# Altium footprint library 按键.PcbLib: 69 footprints (part 1 of 5)
Each footprint in its own frame and in the unit in brackets; x right, y up, seen from the top. Pads: shape width x height; smd on the part's side, far side on the other; paste and mask are expansions set on the pad; w line width, h text height; cw(c..) or ccw(c..) is an arc to the next point about the centre after c.
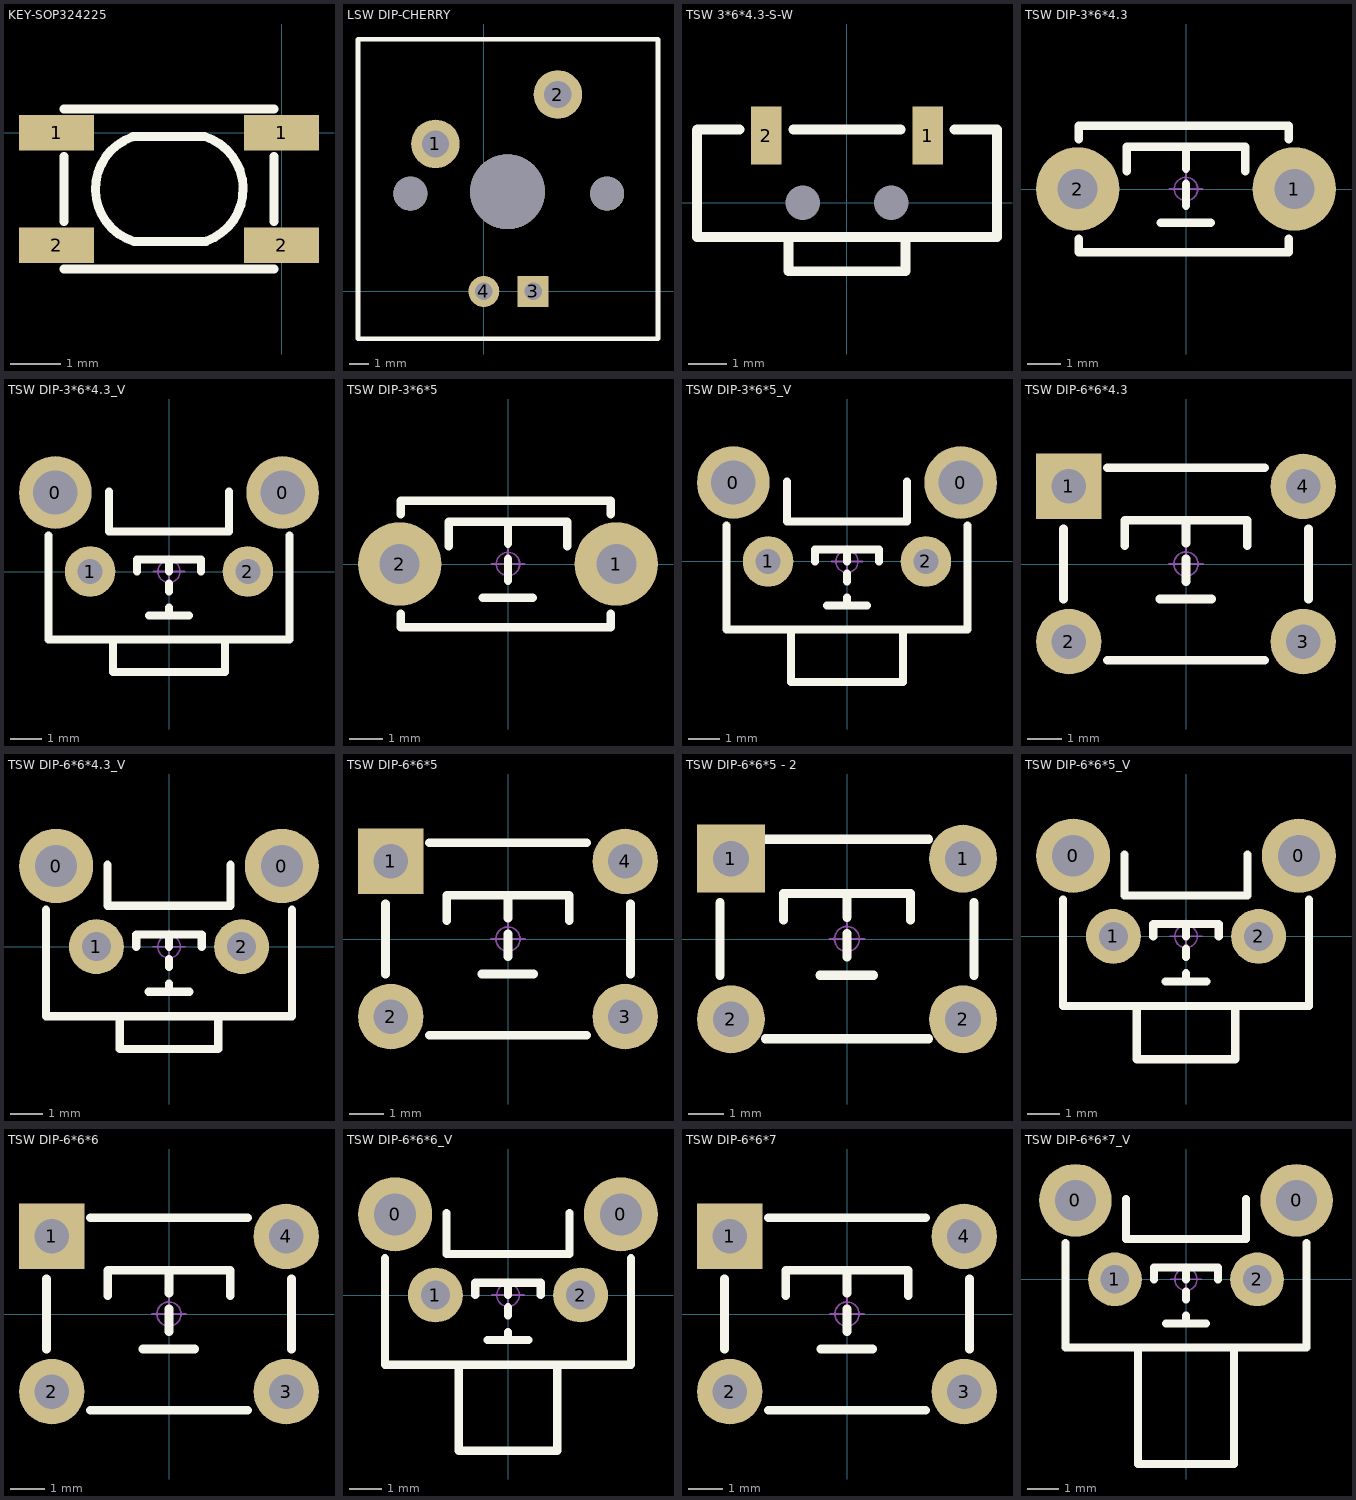
[diagram p0: the footprints below, top view; thin cyan lines are the x and y axes]

## KEY-SOP324225 [mm]
pads (4):
  rect 1.5x0.7 smd: 1(-4.5,0) 1(0,0) 2(-4.5,-2.25) 2(0,-2.25)
Top Overlay:
  lines w0.178: -4.35,-2.725 -0.15,-2.725 ; -4.35,-1.775 -4.35,-0.475 ; -4.35,0.475 -0.15,0.475 ; -2.988,-0.088 ccw(c-2.622,-1.125) -2.95,-2.175 -1.513,-2.175 ; -2.975,-0.075 -1.538,-0.075 cw(c-1.866,-1.125) -1.5,-2.162 ; -0.15,-1.775 -0.15,-0.475
3D body "User Library-KEY_SOT_P2.STEP": height 2.49, standoff 0.1, extent -6.438,-2.927 1.702,0.673

## LSW DIP-CHERRY [mm]
pads (7):
  round 2.5 hole 1.4: 1(-2.489,7.595) 2(3.81,10.135)
  rect 1.6x1.6 hole 0.9: 3(2.54,0)
  round 1.6 hole 0.9: 4(0,0)
  round 1.75 hole 1.75: ""(-3.785,5.029) ""(6.35,5.029)
  round 3.85 hole 3.85: ""(1.219,5.131)
Top Overlay:
  lines w0.254: -6.477,-2.438 -6.477,12.979 8.966,12.979 8.966,-2.438 -6.477,-2.438
3D body "凯?": height 3.45, standoff -15.75, extent -6.581,-2.669 9.019,12.931

## TSW 3*6*4.3-S-W [mm] "侧立贴片3*6*4.3"
pads (4):
  round 0 hole 0.9: 0(-1.15,0) 0(1.15,0)
  rect 0.8x1.5 smd: 1(2.1,1.75) 2(-2.1,1.75)
Top Overlay:
  lines w0.254: -2.794,1.905 -3.895,1.905 -3.9,1.9 -3.9,-0.889 3.9,-0.889 3.9,1.91 3.895,1.905 2.794,1.905 ; -1.524,-0.889 -1.524,-1.778 1.524,-1.778 1.524,-0.889 ; -1.397,1.905 1.397,1.905
3D body "TSW 3x6x4.3-S-W.STEP": height 3.51, standoff -0.74, extent -3.9,-1.79 3.9,1.91

## TSW DIP-3*6*4.3 [mm] "3*6*4.3mm"
pads (2):
  round 2.5 hole 1.2: 1(3.25,0) 2(-3.25,0)
Top Overlay:
  lines w0.254: -3.212,-1.499 -3.212,-1.9 3.088,-1.9 3.088,-1.499 ; -3.212,1.499 -3.212,1.9 3.088,1.9 3.088,1.499 ; -1.778,0.533 -1.778,1.27 1.778,1.27 1.778,0.533 ; -0.762,-1.016 0.737,-1.016 ; 0,-0.508 0,0.152 ; 0,0.61 0,1.27
Mechanical 15:
  circle w0.05: c0,0 r0.35
  lines w0.05: -0.5,0 0.5,0 ; 0,-0.5 0,0.5
3D body "TSW DIP-3x6x4.3.STEP": height 4.31, standoff -3.49, extent -3.914,-1.75 3.914,1.75

## TSW DIP-3*6*4.3_V [mm] "侧按轻触开关 3*6*4.3mm"
pads (4):
  round 2.3 hole 1.4: 0(-3.6,2.5) 0(3.6,2.5)
  round 1.6 hole 0.8: 1(-2.5,0) 2(2.5,0)
Top Overlay:
  lines w0.254: -3.81,1.143 -3.81,-2.159 3.81,-2.159 3.81,1.143 ; -1.905,2.54 -1.905,1.27 1.905,1.27 1.905,2.54 ; -1.778,-2.159 -1.778,-3.175 1.778,-3.175 1.778,-2.159 ; -1.016,0 -1.016,0.381 1.016,0.381 1.016,0 ; -0.635,-1.397 0.635,-1.397 ; 0,-1.397 0,-1.143 ; 0,-0.635 0,-0.381 ; 0,0 0,0.381
Mechanical 15:
  circle w0.05: c0,0 r0.35
  lines w0.05: -0.5,0 0.5,0 ; 0,-0.5 0,0.5
3D body "TSW DIP-3x6x4.3_V.STEP": height 4.45, standoff -2.8, extent -3.996,-3.05 3.996,3.5

## TSW DIP-3*6*5 [mm] "3*6*5mm"
pads (2):
  round 2.5 hole 1.2: 1(3.25,0) 2(-3.25,0)
Top Overlay:
  lines w0.254: -3.212,-1.499 -3.212,-1.9 3.088,-1.9 3.088,-1.499 ; -3.212,1.499 -3.212,1.9 3.088,1.9 3.088,1.499 ; -1.778,0.533 -1.778,1.27 1.778,1.27 1.778,0.533 ; -0.762,-1.016 0.737,-1.016 ; 0,-0.508 0,0.152 ; 0,0.61 0,1.27
Mechanical 15:
  circle w0.05: c0,0 r0.35
  lines w0.05: -0.5,0 0.5,0 ; 0,-0.5 0,0.5
3D body "TSW DIP-3x6x5.STEP": height 5.01, standoff -3.49, extent -3.914,-1.75 3.914,1.75

## TSW DIP-3*6*5_V [mm] "侧按轻触开关 3*6*5mm"
pads (4):
  round 2.3 hole 1.4: 0(-3.6,2.5) 0(3.6,2.5)
  round 1.6 hole 0.8: 1(-2.5,0) 2(2.5,0)
Top Overlay:
  lines w0.254: -3.81,1.143 -3.81,-2.159 3.81,-2.159 3.81,1.143 ; -1.905,2.54 -1.905,1.27 1.905,1.27 1.905,2.54 ; -1.778,-2.159 -1.778,-3.81 1.778,-3.81 1.778,-2.159 ; -1.016,0 -1.016,0.381 1.016,0.381 1.016,0 ; -0.635,-1.397 0.635,-1.397 ; 0,-1.397 0,-1.143 ; 0,-0.635 0,-0.381 ; 0,0 0,0.381
Mechanical 15:
  circle w0.05: c0,0 r0.35
  lines w0.05: -0.5,0 0.5,0 ; 0,-0.5 0,0.5
3D body "TSW DIP-3x6x5_V.STEP": height 4.45, standoff -2.8, extent -3.996,-3.75 3.996,3.5

## TSW DIP-6*6*4.3 [mm] "6*6*4.3mm"
pads (4):
  rect 1.9x1.9 hole 1: 1(-3.4,2.25)
  round 1.9 hole 1: 2(-3.4,-2.25) 3(3.4,-2.25) 4(3.4,2.25)
Top Overlay:
  lines w0.254: -3.556,-1.016 -3.556,1.016 ; -2.286,-2.794 2.286,-2.794 ; -2.286,2.794 2.286,2.794 ; -1.778,0.533 -1.778,1.27 1.778,1.27 1.778,0.533 ; -0.762,-1.016 0.737,-1.016 ; 0,-0.508 0,0.152 ; 0,0.61 0,1.27 ; 3.556,-1.016 3.556,1.016
Bottom Overlay:
  lines w0.254: -2.286,-2.286 2.286,-2.286 ; -2.286,2.286 2.286,2.286
Mechanical 15:
  circle w0.05: c0,0 r0.35
  lines w0.05: -0.5,0 0.5,0 ; 0,-0.5 0,0.5
3D body "TSW DIP-6x6x4.3.STEP": height 4.25, standoff -3.45, extent -4.106,-3 4.106,3

## TSW DIP-6*6*4.3_V [mm] "侧按轻触开关 6*6*4.3mm"
pads (4):
  round 2.3 hole 1.3: 0(-3.5,2.5) 0(3.5,2.5)
  round 1.7 hole 0.9: 1(-2.25,0) 2(2.25,0)
Top Overlay:
  lines w0.254: -3.81,1.143 -3.81,-2.159 3.81,-2.159 3.81,1.143 ; -1.905,2.54 -1.905,1.27 1.905,1.27 1.905,2.54 ; -1.524,-2.159 -1.524,-3.175 1.524,-3.175 1.524,-2.159 ; -1.016,0 -1.016,0.381 1.016,0.381 1.016,0 ; -0.635,-1.397 0.635,-1.397 ; 0,-1.397 0,-1.143 ; 0,-0.635 0,-0.381 ; 0,0 0,0.381
Mechanical 15:
  circle w0.05: c0,0 r0.35
  lines w0.05: -0.5,0 0.5,0 ; 0,-0.5 0,0.5
3D body "TSW DIP-6x6x4.3_V.STEP": height 7.47, standoff -3.4, extent -4.183,-3.023 4.184,4.127

## TSW DIP-6*6*5 [mm] "6*6*5mm"
pads (4):
  rect 1.9x1.9 hole 1: 1(-3.4,2.25)
  round 1.9 hole 1: 2(-3.4,-2.25) 3(3.4,-2.25) 4(3.4,2.25)
Top Overlay:
  lines w0.254: -3.556,-1.016 -3.556,1.016 ; -2.286,-2.794 2.286,-2.794 ; -2.286,2.794 2.286,2.794 ; -1.778,0.533 -1.778,1.27 1.778,1.27 1.778,0.533 ; -0.762,-1.016 0.737,-1.016 ; 0,-0.508 0,0.152 ; 0,0.61 0,1.27 ; 3.556,-1.016 3.556,1.016
Bottom Overlay:
  lines w0.254: -2.286,-2.286 2.286,-2.286 ; -2.286,2.286 2.286,2.286
Mechanical 15:
  circle w0.05: c0,0 r0.35
  lines w0.05: -0.5,0 0.5,0 ; 0,-0.5 0,0.5
3D body "TSW DIP-6x6x5.STEP": height 4.95, standoff -3.45, extent -4.106,-3 4.106,3

## TSW DIP-6*6*5 - 2 [mm] "6*6*5mm"
pads (4):
  rect 1.9x1.9 hole 1: 1(-3.25,2.25)
  round 1.9 hole 1: 1(3.25,2.25) 2(-3.25,-2.25) 2(3.25,-2.25)
Top Overlay:
  lines w0.254: -3.556,-1.016 -3.556,1.016 ; -2.286,-2.794 2.286,-2.794 ; -2.286,2.794 2.286,2.794 ; -1.778,0.533 -1.778,1.27 1.778,1.27 1.778,0.533 ; -0.762,-1.016 0.737,-1.016 ; 0,-0.508 0,0.152 ; 0,0.61 0,1.27 ; 3.556,-1.016 3.556,1.016
Bottom Overlay:
  lines w0.254: -2.286,-2.286 2.286,-2.286 ; -2.286,2.286 2.286,2.286
Mechanical 15:
  circle w0.05: c0,0 r0.35
  lines w0.05: -0.5,0 0.5,0 ; 0,-0.5 0,0.5
3D body "TSW DIP-6x6x5.STEP": height 4.95, standoff -3.45, extent -4.106,-3 4.106,3

## TSW DIP-6*6*5_V [mm] "侧按轻触开关 6*6*5mm"
pads (4):
  round 2.3 hole 1.3: 0(-3.5,2.5) 0(3.5,2.5)
  round 1.7 hole 0.9: 1(-2.25,0) 2(2.25,0)
Top Overlay:
  lines w0.254: -3.81,1.143 -3.81,-2.159 3.81,-2.159 3.81,1.143 ; -1.905,2.54 -1.905,1.27 1.905,1.27 1.905,2.54 ; -1.524,-2.159 -1.524,-3.81 1.524,-3.81 1.524,-2.159 ; -1.016,0 -1.016,0.381 1.016,0.381 1.016,0 ; -0.635,-1.397 0.635,-1.397 ; 0,-1.397 0,-1.143 ; 0,-0.635 0,-0.381 ; 0,0 0,0.381
Mechanical 15:
  circle w0.05: c0,0 r0.35
  lines w0.05: -0.5,0 0.5,0 ; 0,-0.5 0,0.5
3D body "TSW DIP-6x6x5_V.STEP": height 7.47, standoff -3.4, extent -4.183,-3.723 4.184,4.127

## TSW DIP-6*6*6 [mm] "6*6*6mm"
pads (4):
  rect 1.9x1.9 hole 1: 1(-3.4,2.25)
  round 1.9 hole 1: 2(-3.4,-2.25) 3(3.4,-2.25) 4(3.4,2.25)
Top Overlay:
  lines w0.254: -3.556,-1.016 -3.556,1.016 ; -2.286,-2.794 2.286,-2.794 ; -2.286,2.794 2.286,2.794 ; -1.778,0.533 -1.778,1.27 1.778,1.27 1.778,0.533 ; -0.762,-1.016 0.737,-1.016 ; 0,-0.508 0,0.152 ; 0,0.61 0,1.27 ; 3.556,-1.016 3.556,1.016
Bottom Overlay:
  lines w0.254: -2.286,-2.286 2.286,-2.286 ; -2.286,2.286 2.286,2.286
Mechanical 15:
  circle w0.05: c0,0 r0.35
  lines w0.05: -0.5,0 0.5,0 ; 0,-0.5 0,0.5
3D body "TSW DIP-6x6x6.STEP": height 5.95, standoff -3.45, extent -4.106,-3 4.106,3

## TSW DIP-6*6*6_V [mm] "侧按轻触开关 6*6*6mm"
pads (4):
  round 2.3 hole 1.3: 0(-3.5,2.5) 0(3.5,2.5)
  round 1.7 hole 0.9: 1(-2.25,0) 2(2.25,0)
Top Overlay:
  lines w0.254: -3.81,1.143 -3.81,-2.159 3.81,-2.159 3.81,1.143 ; -1.905,2.54 -1.905,1.27 1.905,1.27 1.905,2.54 ; -1.524,-2.159 -1.524,-4.826 1.524,-4.826 1.524,-2.159 ; -1.016,0 -1.016,0.381 1.016,0.381 1.016,0 ; -0.635,-1.397 0.635,-1.397 ; 0,-1.397 0,-1.143 ; 0,-0.635 0,-0.381 ; 0,0 0,0.381
Mechanical 15:
  circle w0.05: c0,0 r0.35
  lines w0.05: -0.5,0 0.5,0 ; 0,-0.5 0,0.5
3D body "TSW DIP-6x6x6_V.STEP": height 7.47, standoff -3.4, extent -4.183,-4.723 4.184,4.127

## TSW DIP-6*6*7 [mm] "6*6*7mm"
pads (4):
  rect 1.9x1.9 hole 1: 1(-3.4,2.25)
  round 1.9 hole 1: 2(-3.4,-2.25) 3(3.4,-2.25) 4(3.4,2.25)
Top Overlay:
  lines w0.254: -3.556,-1.016 -3.556,1.016 ; -2.286,-2.794 2.286,-2.794 ; -2.286,2.794 2.286,2.794 ; -1.778,0.533 -1.778,1.27 1.778,1.27 1.778,0.533 ; -0.762,-1.016 0.737,-1.016 ; 0,-0.508 0,0.152 ; 0,0.61 0,1.27 ; 3.556,-1.016 3.556,1.016
Bottom Overlay:
  lines w0.254: -2.286,-2.286 2.286,-2.286 ; -2.286,2.286 2.286,2.286
Mechanical 15:
  circle w0.05: c0,0 r0.35
  lines w0.05: -0.5,0 0.5,0 ; 0,-0.5 0,0.5
3D body "TSW DIP-6x6x7.STEP": height 6.95, standoff -3.45, extent -4.106,-3 4.106,3

## TSW DIP-6*6*7_V [mm] "侧按轻触开关 6*6*7mm"
pads (4):
  round 2.3 hole 1.3: 0(-3.5,2.5) 0(3.5,2.5)
  round 1.7 hole 0.9: 1(-2.25,0) 2(2.25,0)
Top Overlay:
  lines w0.254: -3.81,1.143 -3.81,-2.159 3.81,-2.159 3.81,1.143 ; -1.905,2.54 -1.905,1.27 1.905,1.27 1.905,2.54 ; -1.524,-2.159 -1.524,-5.842 1.524,-5.842 1.524,-2.159 ; -1.016,0 -1.016,0.381 1.016,0.381 1.016,0 ; -0.635,-1.397 0.635,-1.397 ; 0,-1.397 0,-1.143 ; 0,-0.635 0,-0.381 ; 0,0 0,0.381
Mechanical 15:
  circle w0.05: c0,0 r0.35
  lines w0.05: -0.5,0 0.5,0 ; 0,-0.5 0,0.5
3D body "TSW DIP-6x6x7_V.STEP": height 7.47, standoff -3.4, extent -4.183,-5.723 4.184,4.127